# EAGLE library part YM2164 (library ym2164)
SFG OPP Chip
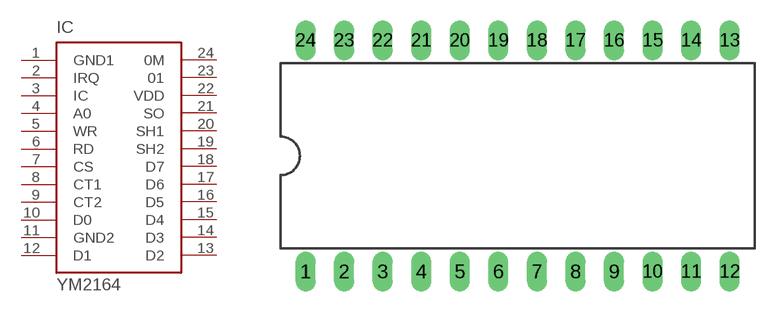
[diagram p0: symbol with the pads of DIL24; footprint DIL24]

Designator prefix IC

## YM2164  [DIL24]
1  GND1
2  IRQ
3  IC
4  A0
5  WR
6  RD
7  CS
8  CT1
9  CT2
10  D0
11  GND2
12  D1
13  D2
14  D3
15  D4
16  D5
17  D6
18  D7
19  SH2
20  SH1
21  SO
22  VDD
23  01
24  0M

## Footprint DIL24 (pad centres in mm)
Dual In Line package type P
drill 0.813 long: 1 -13.97,-7.62; 2 -11.43,-7.62; 3 -8.89,-7.62; 4 -6.35,-7.62; 5 -3.81,-7.62; 6 -1.27,-7.62; 7 1.27,-7.62; 8 3.81,-7.62; 9 6.35,-7.62; 10 8.89,-7.62; 11 11.43,-7.62; 12 13.97,-7.62; 13 13.97,7.62; 14 11.43,7.62; 15 8.89,7.62; 16 6.35,7.62; 17 3.81,7.62; 18 1.27,7.62; 19 -1.27,7.62; 20 -3.81,7.62; 21 -6.35,7.62; 22 -8.89,7.62; 23 -11.43,7.62; 24 -13.97,7.62